# Altium schematic symbol library SCH - CONNECTORS - 3 PIN + SHIELD.SchLib: 1 symbol
Pins are listed as number, name and electrical type; pins without a type are passive.

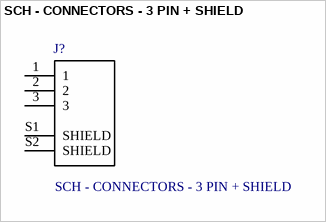
[diagram p0: symbol SCH - CONNECTORS - 3 PIN + SHIELD]

## SCH - CONNECTORS - 3 PIN + SHIELD
designator J?
Connector Header Surface Mount, Right Angle 4 position 0.039 _1.00mm_; MF: Molex; MP: 5037630491; SnapEDA_Link: https://www.snapeda.com/parts/5037630491/Molex/view-part/3215405/?ref=snap; Package: None; Price: None; Availability: Unavailable; Value: *
footprint PCB - CONNECTOR - MOLEX - PICO-LOCK 5037630391
pins: 1, 2, 3, S1 SHIELD, S2 SHIELD